# Altium schematic symbol library analog_sensor.SchLib: 8 symbols
Pins are listed as number, name and electrical type; pins without a type are passive.

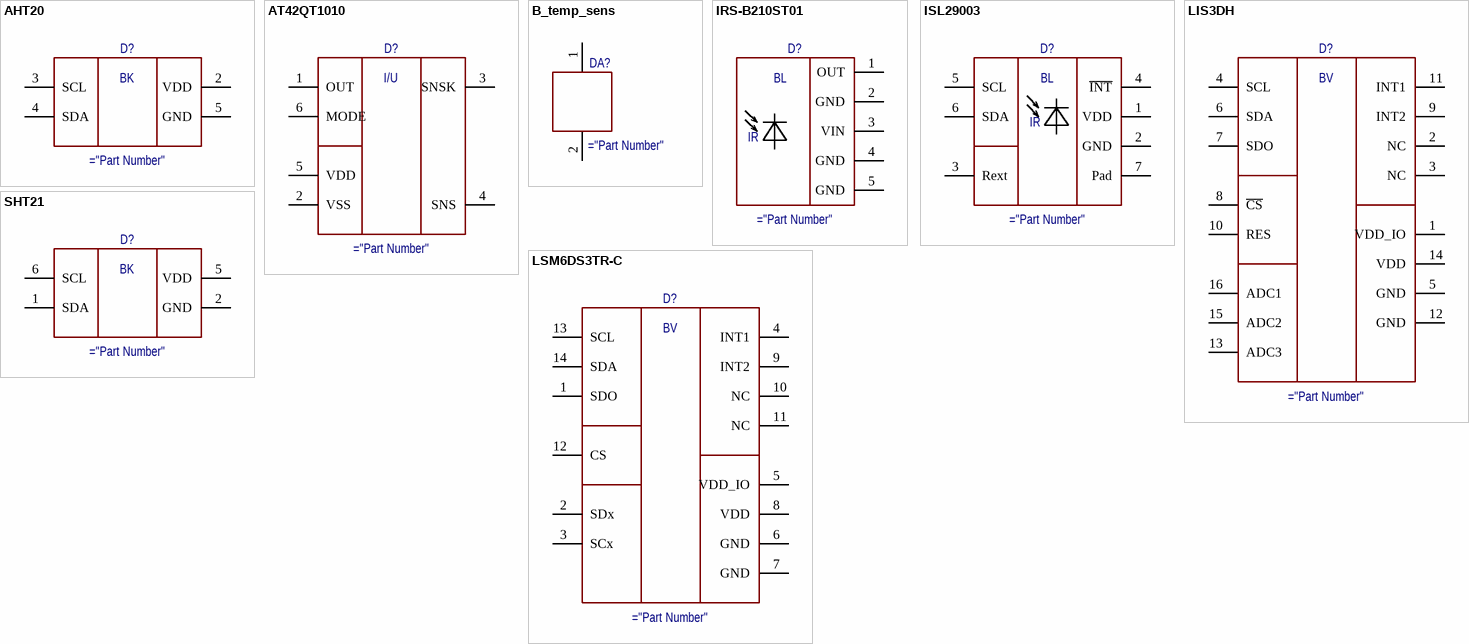
[diagram p0: symbols AHT20 to SHT21]

## AHT20
designator D?
Humidity Temperature Sensor
pins: 1 hidden, 2 VDD, 3 SCL, 4 SDA, 5 GND, 6 hidden
text: BK

## AT42QT1010
designator D?
Touch Sensor
pins: 1 OUT, 2 VSS, 3 SNSK, 4 SNS, 5 VDD, 6 MODE
text: I/U

## B_temp_sens
designator DA?
temperature sensor
pins: 1, 2

## IRS-B210ST01
designator D?
PIR Sensor Motion
pins: 1 OUT, 2 GND, 3 hidden, 3 VIN, 4 hidden, 4 GND, 5 GND, 7 hidden
text: BL; IR

## ISL29003
designator D?
Optical Sensor
pins: 1 VDD, 2 GND, 3 Rext, 4 ~{INT}, 5 SCL, 6 SDA, 7 Pad
text: BL; IR

## LIS3DH
designator D?
Accelerometer
pins: 1 VDD_IO, 2 NC, 3 NC, 4 SCL, 5 GND, 6 SDA, 7 SDO, 8 ~{CS}, 9 INT2, 10 RES, 11 INT1, 12 GND, 13 ADC3, 14 VDD, 15 ADC2, 16 ADC1
text: BV

## LSM6DS3TR-C
designator D?
Accelerometer
pins: 1 SDO, 2 SDx, 3 SCx, 4 INT1, 5 VDD_IO, 6 GND, 7 GND, 8 VDD, 9 INT2, 10 NC, 11 NC, 12 CS, 13 SCL, 14 SDA
text: BV

## SHT21
designator D?
Humidity Temperature Sensor
pins: 1 SDA, 2 GND, 3 hidden, 4 hidden, 5 VDD, 6 SCL, 7 hidden
text: BK